# Altium schematic symbol library SCH - MICROCONTROLLER - 9C-Quarz.SCHLIB: 1 symbol
Pins are listed as number, name and electrical type; pins without a type are passive.

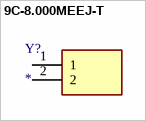
[diagram p0: symbol 9C-8.000MEEJ-T]

## 9C-8.000MEEJ-T
designator Y?
Crystal or Oscillator; Manufacturer_Name: TXC; Manufacturer_Part_Number: 9C-8.000MEEJ-T; Description: TXC - 9C-8.000MEEJ-T - XTAL; Datasheet Link: https://componentsearchengine.com//9C-8.000MEEJ-T.pdf; Height: 3.8mm; Mouser2 Part Number: 717-9C-8.000MEEJ-T; Mouser2 Price/Stock: https://www.mouser.com/Search/Refine.aspx?Keyword=717-9C-8.000MEEJ-T
footprint 9C7680MBBKT
pins: 1, 2